# Altium integrated library Maxim Digital Potentiometers.IntLib: 1045 symbols (part 5 of 42)
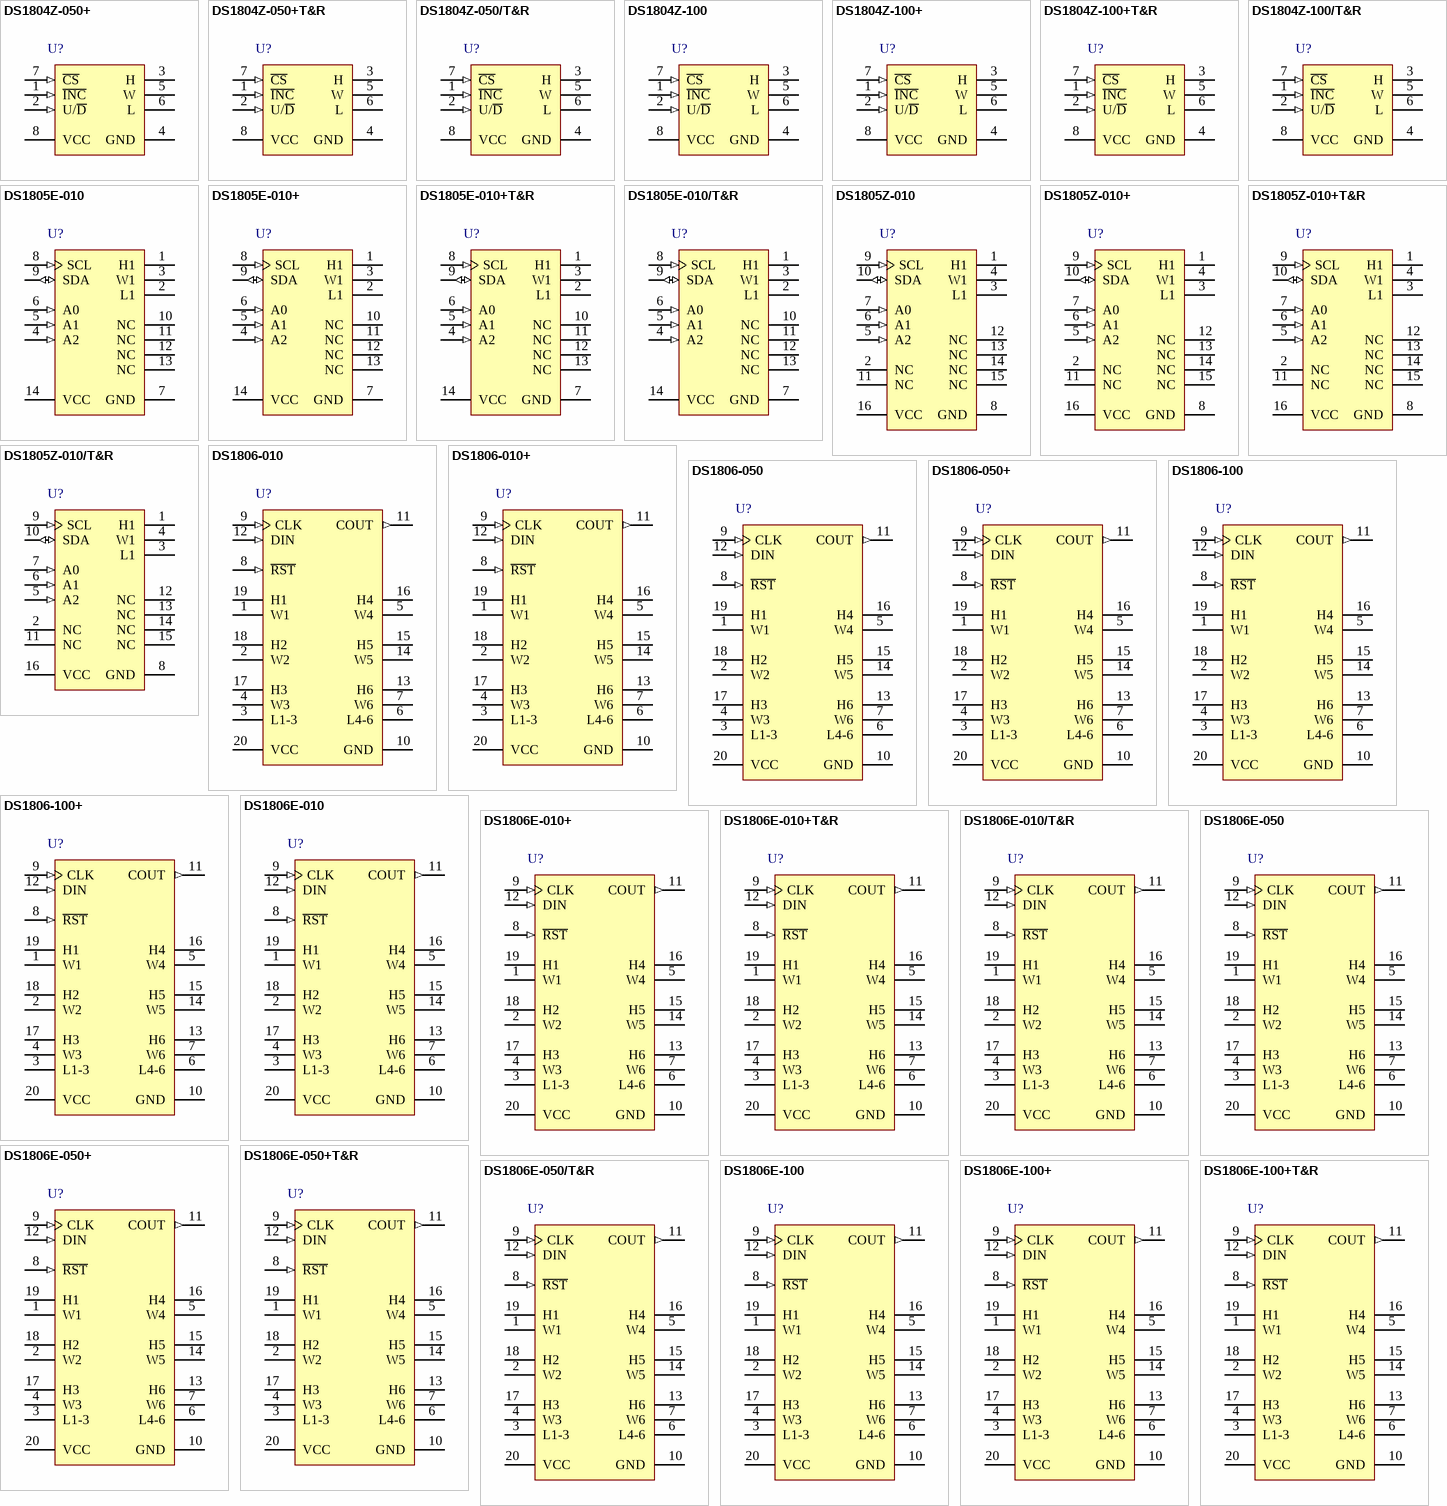
[diagram p33: symbols DS1804Z-050+ to DS1806E-100+T&R]

## DS1806-050
designator U?
Digital Sextet Potentiometer with 3-Wire Serial Control Interface, Volatile, Linear Taper, 64 Steps, -40 to 85 degC, 20-pin PDIP (P20-3); PartNumber: DS1806-050; DatasheetVersion: Rev. 1; PackageVersion: Rev. E, 04/2011; PackageReference: P20-3; PackageDescription: 20-Pin Plastic Dual-In-Line, Narrow (0.3in) (P20-3), Body 26.16 x 6.985 mm, Pitch 2.54 mm; Supplier 1: Digi-Key; Supplier Part Number 1: DS1806-050-ND; Supplier 2: Mouser; Supplier Part Number 2: N/A; Control Interface: 3-Wire Serial; Mounting Technology: Through Hole; Code_JEDEC: MS001-XX; ComponentLink1Description: Manufacturer URL; ComponentLink1URL: http://www.maximintegrated.com/; ComponentLink2Description: Datasheet; ComponentLink2URL: http://datasheets.maximintegrated.com/en/ds/DS1806.pdf; ComponentLink3Description: Package Specification; ComponentLink3URL: http://pdfserv.maximintegrated.com/package_dwgs/21-0043.PDF
footprint MAXM-P20-3 (DIP, 20-Leads, Body 26.16x6.985mm, Pitch 2.54mm)
pins: 1 W1 "Wiper Terminal of Pot", 2 W2 "Wiper Terminal of Pot", 3 L1-3 "Low Terminal Pots 1 through 3", 4 W3 "Wiper Terminal of Pot", 5 W4 "Wiper Terminal of Pot", 6 L4-6 "Low Terminal Pots 4 through 6", 7 W6 "Wiper Terminal of Pot", 8 ~{RST} (in) "Serial Port Reset Input", 9 CLK (in) "Serial Port Clock Input", 10 GND (power) "Ground", 11 COUT (out) "Cascade Data Output", 12 DIN (in) "Serial Port Data Input", 13 H6 "High End terminal of Pot", 14 W5 "Wiper Terminal of Pot", 15 H5 "High End terminal of Pot", 16 H4 "High End terminal of Pot", 17 H3 "High End terminal of Pot", 18 H2 "High End terminal of Pot", 19 H1 "High End terminal of Pot", 20 VCC (power) "3V or 5V Supply"

## DS1806-050+
designator U?
Digital Sextet Potentiometer with 3-Wire Serial Control Interface, Volatile, Linear Taper, 64 Steps, -40 to 85 degC, 20-pin PDIP (P20+3), Pb-Free; PartNumber: DS1806-050+; DatasheetVersion: Rev. 1; PackageVersion: Rev. E, 04/2011; PackageReference: P20+3; PackageDescription: 20-Pin Plastic Dual-In-Line, Narrow (0.3in) (P20+3), Body 26.16 x 6.985 mm, Pitch 2.54 mm; Supplier 1: Digi-Key; Supplier Part Number 1: DS1806-050+-ND; Supplier 2: Mouser; Supplier Part Number 2: 700-DS1806-050; Control Interface: 3-Wire Serial; Mounting Technology: Through Hole; Code_JEDEC: MS001-XX; ComponentLink1Description: Manufacturer URL; ComponentLink1URL: http://www.maximintegrated.com/; ComponentLink2Description: Datasheet; ComponentLink2URL: http://datasheets.maximintegrated.com/en/ds/DS1806.pdf; ComponentLink3Description: Package Specification; ComponentLink3URL: http://pdfserv.maximintegrated.com/package_dwgs/21-0043.PDF
footprint MAXM-P20+3 (DIP, 20-Leads, Body 26.16x6.985mm, Pitch 2.54mm)
pins: 1 W1 "Wiper Terminal of Pot", 2 W2 "Wiper Terminal of Pot", 3 L1-3 "Low Terminal Pots 1 through 3", 4 W3 "Wiper Terminal of Pot", 5 W4 "Wiper Terminal of Pot", 6 L4-6 "Low Terminal Pots 4 through 6", 7 W6 "Wiper Terminal of Pot", 8 ~{RST} (in) "Serial Port Reset Input", 9 CLK (in) "Serial Port Clock Input", 10 GND (power) "Ground", 11 COUT (out) "Cascade Data Output", 12 DIN (in) "Serial Port Data Input", 13 H6 "High End terminal of Pot", 14 W5 "Wiper Terminal of Pot", 15 H5 "High End terminal of Pot", 16 H4 "High End terminal of Pot", 17 H3 "High End terminal of Pot", 18 H2 "High End terminal of Pot", 19 H1 "High End terminal of Pot", 20 VCC (power) "3V or 5V Supply"

## DS1806-100
designator U?
Digital Sextet Potentiometer with 3-Wire Serial Control Interface, Volatile, Linear Taper, 64 Steps, -40 to 85 degC, 20-pin PDIP (P20-3); PartNumber: DS1806-100; DatasheetVersion: Rev. 1; PackageVersion: Rev. E, 04/2011; PackageReference: P20-3; PackageDescription: 20-Pin Plastic Dual-In-Line, Narrow (0.3in) (P20-3), Body 26.16 x 6.985 mm, Pitch 2.54 mm; Supplier 1: Digi-Key; Supplier Part Number 1: DS1806-100-ND; Supplier 2: Farnell; Supplier Part Number 2: 670959; Supplier 3: Mouser; Supplier Part Number 3: N/A; Control Interface: 3-Wire Serial; Mounting Technology: Through Hole; Code_JEDEC: MS001-XX; ComponentLink1Description: Manufacturer URL; ComponentLink1URL: http://www.maximintegrated.com/; ComponentLink2Description: Datasheet; ComponentLink2URL: http://datasheets.maximintegrated.com/en/ds/DS1806.pdf; ComponentLink3Description: Package Specification; ComponentLink3URL: http://pdfserv.maximintegrated.com/package_dwgs/21-0043.PDF
footprint MAXM-P20-3 (DIP, 20-Leads, Body 26.16x6.985mm, Pitch 2.54mm)
pins: 1 W1 "Wiper Terminal of Pot", 2 W2 "Wiper Terminal of Pot", 3 L1-3 "Low Terminal Pots 1 through 3", 4 W3 "Wiper Terminal of Pot", 5 W4 "Wiper Terminal of Pot", 6 L4-6 "Low Terminal Pots 4 through 6", 7 W6 "Wiper Terminal of Pot", 8 ~{RST} (in) "Serial Port Reset Input", 9 CLK (in) "Serial Port Clock Input", 10 GND (power) "Ground", 11 COUT (out) "Cascade Data Output", 12 DIN (in) "Serial Port Data Input", 13 H6 "High End terminal of Pot", 14 W5 "Wiper Terminal of Pot", 15 H5 "High End terminal of Pot", 16 H4 "High End terminal of Pot", 17 H3 "High End terminal of Pot", 18 H2 "High End terminal of Pot", 19 H1 "High End terminal of Pot", 20 VCC (power) "3V or 5V Supply"

## DS1806-100+
designator U?
Digital Sextet Potentiometer with 3-Wire Serial Control Interface, Volatile, Linear Taper, 64 Steps, -40 to 85 degC, 20-pin PDIP (P20+3), Pb-Free; PartNumber: DS1806-100+; DatasheetVersion: Rev. 1; PackageVersion: Rev. E, 04/2011; PackageReference: P20+3; PackageDescription: 20-Pin Plastic Dual-In-Line, Narrow (0.3in) (P20+3), Body 26.16 x 6.985 mm, Pitch 2.54 mm; Supplier 1: Digi-Key; Supplier Part Number 1: DS1806-100+-ND; Supplier 2: Mouser; Supplier Part Number 2: 700-DS1806-100; Control Interface: 3-Wire Serial; Mounting Technology: Through Hole; Code_JEDEC: MS001-XX; ComponentLink1Description: Manufacturer URL; ComponentLink1URL: http://www.maximintegrated.com/; ComponentLink2Description: Datasheet; ComponentLink2URL: http://datasheets.maximintegrated.com/en/ds/DS1806.pdf; ComponentLink3Description: Package Specification; ComponentLink3URL: http://pdfserv.maximintegrated.com/package_dwgs/21-0043.PDF
footprint MAXM-P20+3 (DIP, 20-Leads, Body 26.16x6.985mm, Pitch 2.54mm)
pins: 1 W1 "Wiper Terminal of Pot", 2 W2 "Wiper Terminal of Pot", 3 L1-3 "Low Terminal Pots 1 through 3", 4 W3 "Wiper Terminal of Pot", 5 W4 "Wiper Terminal of Pot", 6 L4-6 "Low Terminal Pots 4 through 6", 7 W6 "Wiper Terminal of Pot", 8 ~{RST} (in) "Serial Port Reset Input", 9 CLK (in) "Serial Port Clock Input", 10 GND (power) "Ground", 11 COUT (out) "Cascade Data Output", 12 DIN (in) "Serial Port Data Input", 13 H6 "High End terminal of Pot", 14 W5 "Wiper Terminal of Pot", 15 H5 "High End terminal of Pot", 16 H4 "High End terminal of Pot", 17 H3 "High End terminal of Pot", 18 H2 "High End terminal of Pot", 19 H1 "High End terminal of Pot", 20 VCC (power) "3V or 5V Supply"

## DS1806E-010
designator U?
Digital Sextet Potentiometer with 3-Wire Serial Control Interface, Volatile, Linear Taper, 64 Steps, -40 to 85 degC, 20-pin TSSOP (U20-1); PartNumber: DS1806E-010; DatasheetVersion: Rev. 1; PackageVersion: Rev. L, 07/2010; PackageReference: U20-1; PackageDescription: 20-Pin Thin Shrink Small-Outline Package (U20-1), Body 6.5 x 4.4 mm, Pitch 0.65 mm; Supplier 1: Digi-Key; Supplier Part Number 1: DS1806E-010-ND; Supplier 2: Mouser; Supplier Part Number 2: N/A; Control Interface: 3-Wire Serial; Mounting Technology: Surface Mount; Code_JEDEC: MO-153; ComponentLink1Description: Manufacturer URL; ComponentLink1URL: http://www.maximintegrated.com/; ComponentLink2Description: Datasheet; ComponentLink2URL: http://datasheets.maximintegrated.com/en/ds/DS1806.pdf; ComponentLink3Description: Package Specification; ComponentLink3URL: http://pdfserv.maximintegrated.com/package_dwgs/21-0066.PDF
footprint MAXM-U20-1_N (SOP, 20-Leads, Body 6.5x4.40mm, Pitch 0.65mm, IPC Medium Density)
footprint MAXM-U20-1_L (SOP, 20-Leads, Body 6.5x4.40mm, Pitch 0.65mm, IPC High Density)
footprint MAXM-U20-1_M (SOP, 20-Leads, Body 6.5x4.40mm, Pitch 0.65mm, IPC Low Density)
pins: 1 W1 "Wiper Terminal of Pot", 2 W2 "Wiper Terminal of Pot", 3 L1-3 "Low Terminal Pots 1 through 3", 4 W3 "Wiper Terminal of Pot", 5 W4 "Wiper Terminal of Pot", 6 L4-6 "Low Terminal Pots 4 through 6", 7 W6 "Wiper Terminal of Pot", 8 ~{RST} (in) "Serial Port Reset Input", 9 CLK (in) "Serial Port Clock Input", 10 GND (power) "Ground", 11 COUT (out) "Cascade Data Output", 12 DIN (in) "Serial Port Data Input", 13 H6 "High End terminal of Pot", 14 W5 "Wiper Terminal of Pot", 15 H5 "High End terminal of Pot", 16 H4 "High End terminal of Pot", 17 H3 "High End terminal of Pot", 18 H2 "High End terminal of Pot", 19 H1 "High End terminal of Pot", 20 VCC (power) "3V or 5V Supply"

## DS1806E-010+
designator U?
Digital Sextet Potentiometer with 3-Wire Serial Control Interface, Volatile, Linear Taper, 64 Steps, -40 to 85 degC, 20-pin TSSOP (U20+1), Pb-Free; PartNumber: DS1806E-010+; DatasheetVersion: Rev. 1; PackageVersion: Rev. L, 07/2010; PackageReference: U20+1; PackageDescription: 20-Pin Thin Shrink Small-Outline Package (U20+1), Body 6.5 x4.4 mm, Pitch 0.65 mm; Supplier 1: Digi-Key; Supplier Part Number 1: DS1806E-010+-ND; Supplier 2: Mouser; Supplier Part Number 2: 700-DS1806E-010; Control Interface: 3-Wire Serial; Mounting Technology: Surface Mount; Code_JEDEC: MO-153; ComponentLink1Description: Manufacturer URL; ComponentLink1URL: http://www.maximintegrated.com/; ComponentLink2Description: Datasheet; ComponentLink2URL: http://datasheets.maximintegrated.com/en/ds/DS1806.pdf; ComponentLink3Description: Package Specification; ComponentLink3URL: http://pdfserv.maximintegrated.com/package_dwgs/21-0066.PDF
footprint MAXM-U20+1_N (SOP, 20-Leads, Body 6.5x4.4mm, Pitch 0.65mm, IPC Medium Density)
footprint MAXM-U20+1_L (SOP, 20-Leads, Body 6.5x4.4mm, Pitch 0.65mm, IPC High Density)
footprint MAXM-U20+1_M (SOP, 20-Leads, Body 6.5x4.4mm, Pitch 0.65mm, IPC Low Density)
pins: 1 W1 "Wiper Terminal of Pot", 2 W2 "Wiper Terminal of Pot", 3 L1-3 "Low Terminal Pots 1 through 3", 4 W3 "Wiper Terminal of Pot", 5 W4 "Wiper Terminal of Pot", 6 L4-6 "Low Terminal Pots 4 through 6", 7 W6 "Wiper Terminal of Pot", 8 ~{RST} (in) "Serial Port Reset Input", 9 CLK (in) "Serial Port Clock Input", 10 GND (power) "Ground", 11 COUT (out) "Cascade Data Output", 12 DIN (in) "Serial Port Data Input", 13 H6 "High End terminal of Pot", 14 W5 "Wiper Terminal of Pot", 15 H5 "High End terminal of Pot", 16 H4 "High End terminal of Pot", 17 H3 "High End terminal of Pot", 18 H2 "High End terminal of Pot", 19 H1 "High End terminal of Pot", 20 VCC (power) "3V or 5V Supply"

## DS1806E-010+T&R
designator U?
Digital Sextet Potentiometer with 3-Wire Serial Control Interface, Volatile, Linear Taper, 64 Steps, -40 to 85 degC, 20-pin TSSOP (U20+1), Pb-Free, Tape and Reel; PartNumber: DS1806E-010+T&R; DatasheetVersion: Rev. 1; PackageVersion: Rev. L, 07/2010; PackageReference: U20+1; PackageDescription: 20-Pin Thin Shrink Small-Outline Package (U20+1), Body 6.5 x4.4 mm, Pitch 0.65 mm; Supplier 1: Digi-Key; Supplier Part Number 1: DS1806E-010+T&R-ND; Supplier 2: Mouser; Supplier Part Number 2: 700-DS1806E-010T&R; Control Interface: 3-Wire Serial; Mounting Technology: Surface Mount; Code_JEDEC: MO-153; ComponentLink1Description: Manufacturer URL; ComponentLink1URL: http://www.maximintegrated.com/; ComponentLink2Description: Datasheet; ComponentLink2URL: http://datasheets.maximintegrated.com/en/ds/DS1806.pdf; ComponentLink3Description: Package Specification; ComponentLink3URL: http://pdfserv.maximintegrated.com/package_dwgs/21-0066.PDF
footprint MAXM-U20+1_N (SOP, 20-Leads, Body 6.5x4.4mm, Pitch 0.65mm, IPC Medium Density)
footprint MAXM-U20+1_L (SOP, 20-Leads, Body 6.5x4.4mm, Pitch 0.65mm, IPC High Density)
footprint MAXM-U20+1_M (SOP, 20-Leads, Body 6.5x4.4mm, Pitch 0.65mm, IPC Low Density)
pins: 1 W1 "Wiper Terminal of Pot", 2 W2 "Wiper Terminal of Pot", 3 L1-3 "Low Terminal Pots 1 through 3", 4 W3 "Wiper Terminal of Pot", 5 W4 "Wiper Terminal of Pot", 6 L4-6 "Low Terminal Pots 4 through 6", 7 W6 "Wiper Terminal of Pot", 8 ~{RST} (in) "Serial Port Reset Input", 9 CLK (in) "Serial Port Clock Input", 10 GND (power) "Ground", 11 COUT (out) "Cascade Data Output", 12 DIN (in) "Serial Port Data Input", 13 H6 "High End terminal of Pot", 14 W5 "Wiper Terminal of Pot", 15 H5 "High End terminal of Pot", 16 H4 "High End terminal of Pot", 17 H3 "High End terminal of Pot", 18 H2 "High End terminal of Pot", 19 H1 "High End terminal of Pot", 20 VCC (power) "3V or 5V Supply"

## DS1806E-010/T&R
designator U?
Digital Sextet Potentiometer with 3-Wire Serial Control Interface, Volatile, Linear Taper, 64 Steps, -40 to 85 degC, 20-pin TSSOP (U20-1), Tape and Reel; PartNumber: DS1806E-010/T&R; DatasheetVersion: Rev. 1; PackageVersion: Rev. L, 07/2010; PackageReference: U20-1; PackageDescription: 20-Pin Thin Shrink Small-Outline Package (U20-1), Body 6.5 x 4.4 mm, Pitch 0.65 mm; Supplier 1: Mouser; Supplier Part Number 1: N/A; Control Interface: 3-Wire Serial; Mounting Technology: Surface Mount; Code_JEDEC: MO-153; ComponentLink1Description: Manufacturer URL; ComponentLink1URL: http://www.maximintegrated.com/; ComponentLink2Description: Datasheet; ComponentLink2URL: http://datasheets.maximintegrated.com/en/ds/DS1806.pdf; ComponentLink3Description: Package Specification; ComponentLink3URL: http://pdfserv.maximintegrated.com/package_dwgs/21-0066.PDF
footprint MAXM-U20-1_N (SOP, 20-Leads, Body 6.5x4.40mm, Pitch 0.65mm, IPC Medium Density)
footprint MAXM-U20-1_L (SOP, 20-Leads, Body 6.5x4.40mm, Pitch 0.65mm, IPC High Density)
footprint MAXM-U20-1_M (SOP, 20-Leads, Body 6.5x4.40mm, Pitch 0.65mm, IPC Low Density)
pins: 1 W1 "Wiper Terminal of Pot", 2 W2 "Wiper Terminal of Pot", 3 L1-3 "Low Terminal Pots 1 through 3", 4 W3 "Wiper Terminal of Pot", 5 W4 "Wiper Terminal of Pot", 6 L4-6 "Low Terminal Pots 4 through 6", 7 W6 "Wiper Terminal of Pot", 8 ~{RST} (in) "Serial Port Reset Input", 9 CLK (in) "Serial Port Clock Input", 10 GND (power) "Ground", 11 COUT (out) "Cascade Data Output", 12 DIN (in) "Serial Port Data Input", 13 H6 "High End terminal of Pot", 14 W5 "Wiper Terminal of Pot", 15 H5 "High End terminal of Pot", 16 H4 "High End terminal of Pot", 17 H3 "High End terminal of Pot", 18 H2 "High End terminal of Pot", 19 H1 "High End terminal of Pot", 20 VCC (power) "3V or 5V Supply"

## DS1806E-050
designator U?
Digital Sextet Potentiometer with 3-Wire Serial Control Interface, Volatile, Linear Taper, 64 Steps, -40 to 85 degC, 20-pin TSSOP (U20-1); PartNumber: DS1806E-050; DatasheetVersion: Rev. 1; PackageVersion: Rev. L, 07/2010; PackageReference: U20-1; PackageDescription: 20-Pin Thin Shrink Small-Outline Package (U20-1), Body 6.5 x 4.4 mm, Pitch 0.65 mm; Supplier 1: Digi-Key; Supplier Part Number 1: DS1806E-050-ND; Supplier 2: Mouser; Supplier Part Number 2: N/A; Control Interface: 3-Wire Serial; Mounting Technology: Surface Mount; Code_JEDEC: MO-153; ComponentLink1Description: Manufacturer URL; ComponentLink1URL: http://www.maximintegrated.com/; ComponentLink2Description: Datasheet; ComponentLink2URL: http://datasheets.maximintegrated.com/en/ds/DS1806.pdf; ComponentLink3Description: Package Specification; ComponentLink3URL: http://pdfserv.maximintegrated.com/package_dwgs/21-0066.PDF
footprint MAXM-U20-1_N (SOP, 20-Leads, Body 6.5x4.40mm, Pitch 0.65mm, IPC Medium Density)
footprint MAXM-U20-1_L (SOP, 20-Leads, Body 6.5x4.40mm, Pitch 0.65mm, IPC High Density)
footprint MAXM-U20-1_M (SOP, 20-Leads, Body 6.5x4.40mm, Pitch 0.65mm, IPC Low Density)
pins: 1 W1 "Wiper Terminal of Pot", 2 W2 "Wiper Terminal of Pot", 3 L1-3 "Low Terminal Pots 1 through 3", 4 W3 "Wiper Terminal of Pot", 5 W4 "Wiper Terminal of Pot", 6 L4-6 "Low Terminal Pots 4 through 6", 7 W6 "Wiper Terminal of Pot", 8 ~{RST} (in) "Serial Port Reset Input", 9 CLK (in) "Serial Port Clock Input", 10 GND (power) "Ground", 11 COUT (out) "Cascade Data Output", 12 DIN (in) "Serial Port Data Input", 13 H6 "High End terminal of Pot", 14 W5 "Wiper Terminal of Pot", 15 H5 "High End terminal of Pot", 16 H4 "High End terminal of Pot", 17 H3 "High End terminal of Pot", 18 H2 "High End terminal of Pot", 19 H1 "High End terminal of Pot", 20 VCC (power) "3V or 5V Supply"

## DS1806E-050+
designator U?
Digital Sextet Potentiometer with 3-Wire Serial Control Interface, Volatile, Linear Taper, 64 Steps, -40 to 85 degC, 20-pin TSSOP (U20+1), Pb-Free; PartNumber: DS1806E-050+; DatasheetVersion: Rev. 1; PackageVersion: Rev. L, 07/2010; PackageReference: U20+1; PackageDescription: 20-Pin Thin Shrink Small-Outline Package (U20+1), Body 6.5 x4.4 mm, Pitch 0.65 mm; Supplier 1: Digi-Key; Supplier Part Number 1: DS1806E-050+-ND; Supplier 2: Mouser; Supplier Part Number 2: 700-DS1806E-050; Control Interface: 3-Wire Serial; Mounting Technology: Surface Mount; Code_JEDEC: MO-153; ComponentLink1Description: Manufacturer URL; ComponentLink1URL: http://www.maximintegrated.com/; ComponentLink2Description: Datasheet; ComponentLink2URL: http://datasheets.maximintegrated.com/en/ds/DS1806.pdf; ComponentLink3Description: Package Specification; ComponentLink3URL: http://pdfserv.maximintegrated.com/package_dwgs/21-0066.PDF
footprint MAXM-U20+1_N (SOP, 20-Leads, Body 6.5x4.4mm, Pitch 0.65mm, IPC Medium Density)
footprint MAXM-U20+1_L (SOP, 20-Leads, Body 6.5x4.4mm, Pitch 0.65mm, IPC High Density)
footprint MAXM-U20+1_M (SOP, 20-Leads, Body 6.5x4.4mm, Pitch 0.65mm, IPC Low Density)
pins: 1 W1 "Wiper Terminal of Pot", 2 W2 "Wiper Terminal of Pot", 3 L1-3 "Low Terminal Pots 1 through 3", 4 W3 "Wiper Terminal of Pot", 5 W4 "Wiper Terminal of Pot", 6 L4-6 "Low Terminal Pots 4 through 6", 7 W6 "Wiper Terminal of Pot", 8 ~{RST} (in) "Serial Port Reset Input", 9 CLK (in) "Serial Port Clock Input", 10 GND (power) "Ground", 11 COUT (out) "Cascade Data Output", 12 DIN (in) "Serial Port Data Input", 13 H6 "High End terminal of Pot", 14 W5 "Wiper Terminal of Pot", 15 H5 "High End terminal of Pot", 16 H4 "High End terminal of Pot", 17 H3 "High End terminal of Pot", 18 H2 "High End terminal of Pot", 19 H1 "High End terminal of Pot", 20 VCC (power) "3V or 5V Supply"

## DS1806E-050+T&R
designator U?
Digital Sextet Potentiometer with 3-Wire Serial Control Interface, Volatile, Linear Taper, 64 Steps, -40 to 85 degC, 20-pin TSSOP (U20+1), Pb-Free, Tape and Reel; PartNumber: DS1806E-050+T&R; DatasheetVersion: Rev. 1; PackageVersion: Rev. L, 07/2010; PackageReference: U20+1; PackageDescription: 20-Pin Thin Shrink Small-Outline Package (U20+1), Body 6.5 x4.4 mm, Pitch 0.65 mm; Supplier 1: Digi-Key; Supplier Part Number 1: DS1806E-050+T&R-ND; Supplier 2: Mouser; Supplier Part Number 2: 700-DS1806E-050T&R; Control Interface: 3-Wire Serial; Mounting Technology: Surface Mount; Code_JEDEC: MO-153; ComponentLink1Description: Manufacturer URL; ComponentLink1URL: http://www.maximintegrated.com/; ComponentLink2Description: Datasheet; ComponentLink2URL: http://datasheets.maximintegrated.com/en/ds/DS1806.pdf; ComponentLink3Description: Package Specification; ComponentLink3URL: http://pdfserv.maximintegrated.com/package_dwgs/21-0066.PDF
footprint MAXM-U20+1_N (SOP, 20-Leads, Body 6.5x4.4mm, Pitch 0.65mm, IPC Medium Density)
footprint MAXM-U20+1_L (SOP, 20-Leads, Body 6.5x4.4mm, Pitch 0.65mm, IPC High Density)
footprint MAXM-U20+1_M (SOP, 20-Leads, Body 6.5x4.4mm, Pitch 0.65mm, IPC Low Density)
pins: 1 W1 "Wiper Terminal of Pot", 2 W2 "Wiper Terminal of Pot", 3 L1-3 "Low Terminal Pots 1 through 3", 4 W3 "Wiper Terminal of Pot", 5 W4 "Wiper Terminal of Pot", 6 L4-6 "Low Terminal Pots 4 through 6", 7 W6 "Wiper Terminal of Pot", 8 ~{RST} (in) "Serial Port Reset Input", 9 CLK (in) "Serial Port Clock Input", 10 GND (power) "Ground", 11 COUT (out) "Cascade Data Output", 12 DIN (in) "Serial Port Data Input", 13 H6 "High End terminal of Pot", 14 W5 "Wiper Terminal of Pot", 15 H5 "High End terminal of Pot", 16 H4 "High End terminal of Pot", 17 H3 "High End terminal of Pot", 18 H2 "High End terminal of Pot", 19 H1 "High End terminal of Pot", 20 VCC (power) "3V or 5V Supply"

## DS1806E-050/T&R
designator U?
Digital Sextet Potentiometer with 3-Wire Serial Control Interface, Volatile, Linear Taper, 64 Steps, -40 to 85 degC, 20-pin TSSOP (U20-1), Tape and Reel; PartNumber: DS1806E-050/T&R; DatasheetVersion: Rev. 1; PackageVersion: Rev. L, 07/2010; PackageReference: U20-1; PackageDescription: 20-Pin Thin Shrink Small-Outline Package (U20-1), Body 6.5 x 4.4 mm, Pitch 0.65 mm; Supplier 1: Digi-Key; Supplier Part Number 1: DS1806E-050/T&R-ND; Supplier 2: Mouser; Supplier Part Number 2: N/A; Control Interface: 3-Wire Serial; Mounting Technology: Surface Mount; Code_JEDEC: MO-153; ComponentLink1Description: Manufacturer URL; ComponentLink1URL: http://www.maximintegrated.com/; ComponentLink2Description: Datasheet; ComponentLink2URL: http://datasheets.maximintegrated.com/en/ds/DS1806.pdf; ComponentLink3Description: Package Specification; ComponentLink3URL: http://pdfserv.maximintegrated.com/package_dwgs/21-0066.PDF
footprint MAXM-U20-1_N (SOP, 20-Leads, Body 6.5x4.40mm, Pitch 0.65mm, IPC Medium Density)
footprint MAXM-U20-1_L (SOP, 20-Leads, Body 6.5x4.40mm, Pitch 0.65mm, IPC High Density)
footprint MAXM-U20-1_M (SOP, 20-Leads, Body 6.5x4.40mm, Pitch 0.65mm, IPC Low Density)
pins: 1 W1 "Wiper Terminal of Pot", 2 W2 "Wiper Terminal of Pot", 3 L1-3 "Low Terminal Pots 1 through 3", 4 W3 "Wiper Terminal of Pot", 5 W4 "Wiper Terminal of Pot", 6 L4-6 "Low Terminal Pots 4 through 6", 7 W6 "Wiper Terminal of Pot", 8 ~{RST} (in) "Serial Port Reset Input", 9 CLK (in) "Serial Port Clock Input", 10 GND (power) "Ground", 11 COUT (out) "Cascade Data Output", 12 DIN (in) "Serial Port Data Input", 13 H6 "High End terminal of Pot", 14 W5 "Wiper Terminal of Pot", 15 H5 "High End terminal of Pot", 16 H4 "High End terminal of Pot", 17 H3 "High End terminal of Pot", 18 H2 "High End terminal of Pot", 19 H1 "High End terminal of Pot", 20 VCC (power) "3V or 5V Supply"

## DS1806E-100
designator U?
Digital Sextet Potentiometer with 3-Wire Serial Control Interface, Volatile, Linear Taper, 64 Steps, -40 to 85 degC, 20-pin TSSOP (U20-1); PartNumber: DS1806E-100; DatasheetVersion: Rev. 1; PackageVersion: Rev. L, 07/2010; PackageReference: U20-1; PackageDescription: 20-Pin Thin Shrink Small-Outline Package (U20-1), Body 6.5 x 4.4 mm, Pitch 0.65 mm; Supplier 1: Digi-Key; Supplier Part Number 1: DS1806E-100-ND; Supplier 2: Mouser; Supplier Part Number 2: N/A; Control Interface: 3-Wire Serial; Mounting Technology: Surface Mount; Code_JEDEC: MO-153; ComponentLink1Description: Manufacturer URL; ComponentLink1URL: http://www.maximintegrated.com/; ComponentLink2Description: Datasheet; ComponentLink2URL: http://datasheets.maximintegrated.com/en/ds/DS1806.pdf; ComponentLink3Description: Package Specification; ComponentLink3URL: http://pdfserv.maximintegrated.com/package_dwgs/21-0066.PDF
footprint MAXM-U20-1_N (SOP, 20-Leads, Body 6.5x4.40mm, Pitch 0.65mm, IPC Medium Density)
footprint MAXM-U20-1_L (SOP, 20-Leads, Body 6.5x4.40mm, Pitch 0.65mm, IPC High Density)
footprint MAXM-U20-1_M (SOP, 20-Leads, Body 6.5x4.40mm, Pitch 0.65mm, IPC Low Density)
pins: 1 W1 "Wiper Terminal of Pot", 2 W2 "Wiper Terminal of Pot", 3 L1-3 "Low Terminal Pots 1 through 3", 4 W3 "Wiper Terminal of Pot", 5 W4 "Wiper Terminal of Pot", 6 L4-6 "Low Terminal Pots 4 through 6", 7 W6 "Wiper Terminal of Pot", 8 ~{RST} (in) "Serial Port Reset Input", 9 CLK (in) "Serial Port Clock Input", 10 GND (power) "Ground", 11 COUT (out) "Cascade Data Output", 12 DIN (in) "Serial Port Data Input", 13 H6 "High End terminal of Pot", 14 W5 "Wiper Terminal of Pot", 15 H5 "High End terminal of Pot", 16 H4 "High End terminal of Pot", 17 H3 "High End terminal of Pot", 18 H2 "High End terminal of Pot", 19 H1 "High End terminal of Pot", 20 VCC (power) "3V or 5V Supply"

## DS1806E-100+
designator U?
Digital Sextet Potentiometer with 3-Wire Serial Control Interface, Volatile, Linear Taper, 64 Steps, -40 to 85 degC, 20-pin TSSOP (U20+1), Pb-Free; PartNumber: DS1806E-100+; DatasheetVersion: Rev. 1; PackageVersion: Rev. L, 07/2010; PackageReference: U20+1; PackageDescription: 20-Pin Thin Shrink Small-Outline Package (U20+1), Body 6.5 x4.4 mm, Pitch 0.65 mm; Supplier 1: Digi-Key; Supplier Part Number 1: DS1806E-100+-ND; Supplier 2: Mouser; Supplier Part Number 2: 700-DS1806E-100; Control Interface: 3-Wire Serial; Mounting Technology: Surface Mount; Code_JEDEC: MO-153; ComponentLink1Description: Manufacturer URL; ComponentLink1URL: http://www.maximintegrated.com/; ComponentLink2Description: Datasheet; ComponentLink2URL: http://datasheets.maximintegrated.com/en/ds/DS1806.pdf; ComponentLink3Description: Package Specification; ComponentLink3URL: http://pdfserv.maximintegrated.com/package_dwgs/21-0066.PDF
footprint MAXM-U20+1_N (SOP, 20-Leads, Body 6.5x4.4mm, Pitch 0.65mm, IPC Medium Density)
footprint MAXM-U20+1_L (SOP, 20-Leads, Body 6.5x4.4mm, Pitch 0.65mm, IPC High Density)
footprint MAXM-U20+1_M (SOP, 20-Leads, Body 6.5x4.4mm, Pitch 0.65mm, IPC Low Density)
pins: 1 W1 "Wiper Terminal of Pot", 2 W2 "Wiper Terminal of Pot", 3 L1-3 "Low Terminal Pots 1 through 3", 4 W3 "Wiper Terminal of Pot", 5 W4 "Wiper Terminal of Pot", 6 L4-6 "Low Terminal Pots 4 through 6", 7 W6 "Wiper Terminal of Pot", 8 ~{RST} (in) "Serial Port Reset Input", 9 CLK (in) "Serial Port Clock Input", 10 GND (power) "Ground", 11 COUT (out) "Cascade Data Output", 12 DIN (in) "Serial Port Data Input", 13 H6 "High End terminal of Pot", 14 W5 "Wiper Terminal of Pot", 15 H5 "High End terminal of Pot", 16 H4 "High End terminal of Pot", 17 H3 "High End terminal of Pot", 18 H2 "High End terminal of Pot", 19 H1 "High End terminal of Pot", 20 VCC (power) "3V or 5V Supply"

## DS1806E-100+T&R
designator U?
Digital Sextet Potentiometer with 3-Wire Serial Control Interface, Volatile, Linear Taper, 64 Steps, -40 to 85 degC, 20-pin TSSOP (U20+1), Pb-Free, Tape and Reel; PartNumber: DS1806E-100+T&R; DatasheetVersion: Rev. 1; PackageVersion: Rev. L, 07/2010; PackageReference: U20+1; PackageDescription: 20-Pin Thin Shrink Small-Outline Package (U20+1), Body 6.5 x4.4 mm, Pitch 0.65 mm; Supplier 1: Digi-Key; Supplier Part Number 1: DS1806E-100+T&R-ND; Supplier 2: Mouser; Supplier Part Number 2: 700-DS1806E-100T&R; Control Interface: 3-Wire Serial; Mounting Technology: Surface Mount; Code_JEDEC: MO-153; ComponentLink1Description: Manufacturer URL; ComponentLink1URL: http://www.maximintegrated.com/; ComponentLink2Description: Datasheet; ComponentLink2URL: http://datasheets.maximintegrated.com/en/ds/DS1806.pdf; ComponentLink3Description: Package Specification; ComponentLink3URL: http://pdfserv.maximintegrated.com/package_dwgs/21-0066.PDF
footprint MAXM-U20+1_N (SOP, 20-Leads, Body 6.5x4.4mm, Pitch 0.65mm, IPC Medium Density)
footprint MAXM-U20+1_L (SOP, 20-Leads, Body 6.5x4.4mm, Pitch 0.65mm, IPC High Density)
footprint MAXM-U20+1_M (SOP, 20-Leads, Body 6.5x4.4mm, Pitch 0.65mm, IPC Low Density)
pins: 1 W1 "Wiper Terminal of Pot", 2 W2 "Wiper Terminal of Pot", 3 L1-3 "Low Terminal Pots 1 through 3", 4 W3 "Wiper Terminal of Pot", 5 W4 "Wiper Terminal of Pot", 6 L4-6 "Low Terminal Pots 4 through 6", 7 W6 "Wiper Terminal of Pot", 8 ~{RST} (in) "Serial Port Reset Input", 9 CLK (in) "Serial Port Clock Input", 10 GND (power) "Ground", 11 COUT (out) "Cascade Data Output", 12 DIN (in) "Serial Port Data Input", 13 H6 "High End terminal of Pot", 14 W5 "Wiper Terminal of Pot", 15 H5 "High End terminal of Pot", 16 H4 "High End terminal of Pot", 17 H3 "High End terminal of Pot", 18 H2 "High End terminal of Pot", 19 H1 "High End terminal of Pot", 20 VCC (power) "3V or 5V Supply"

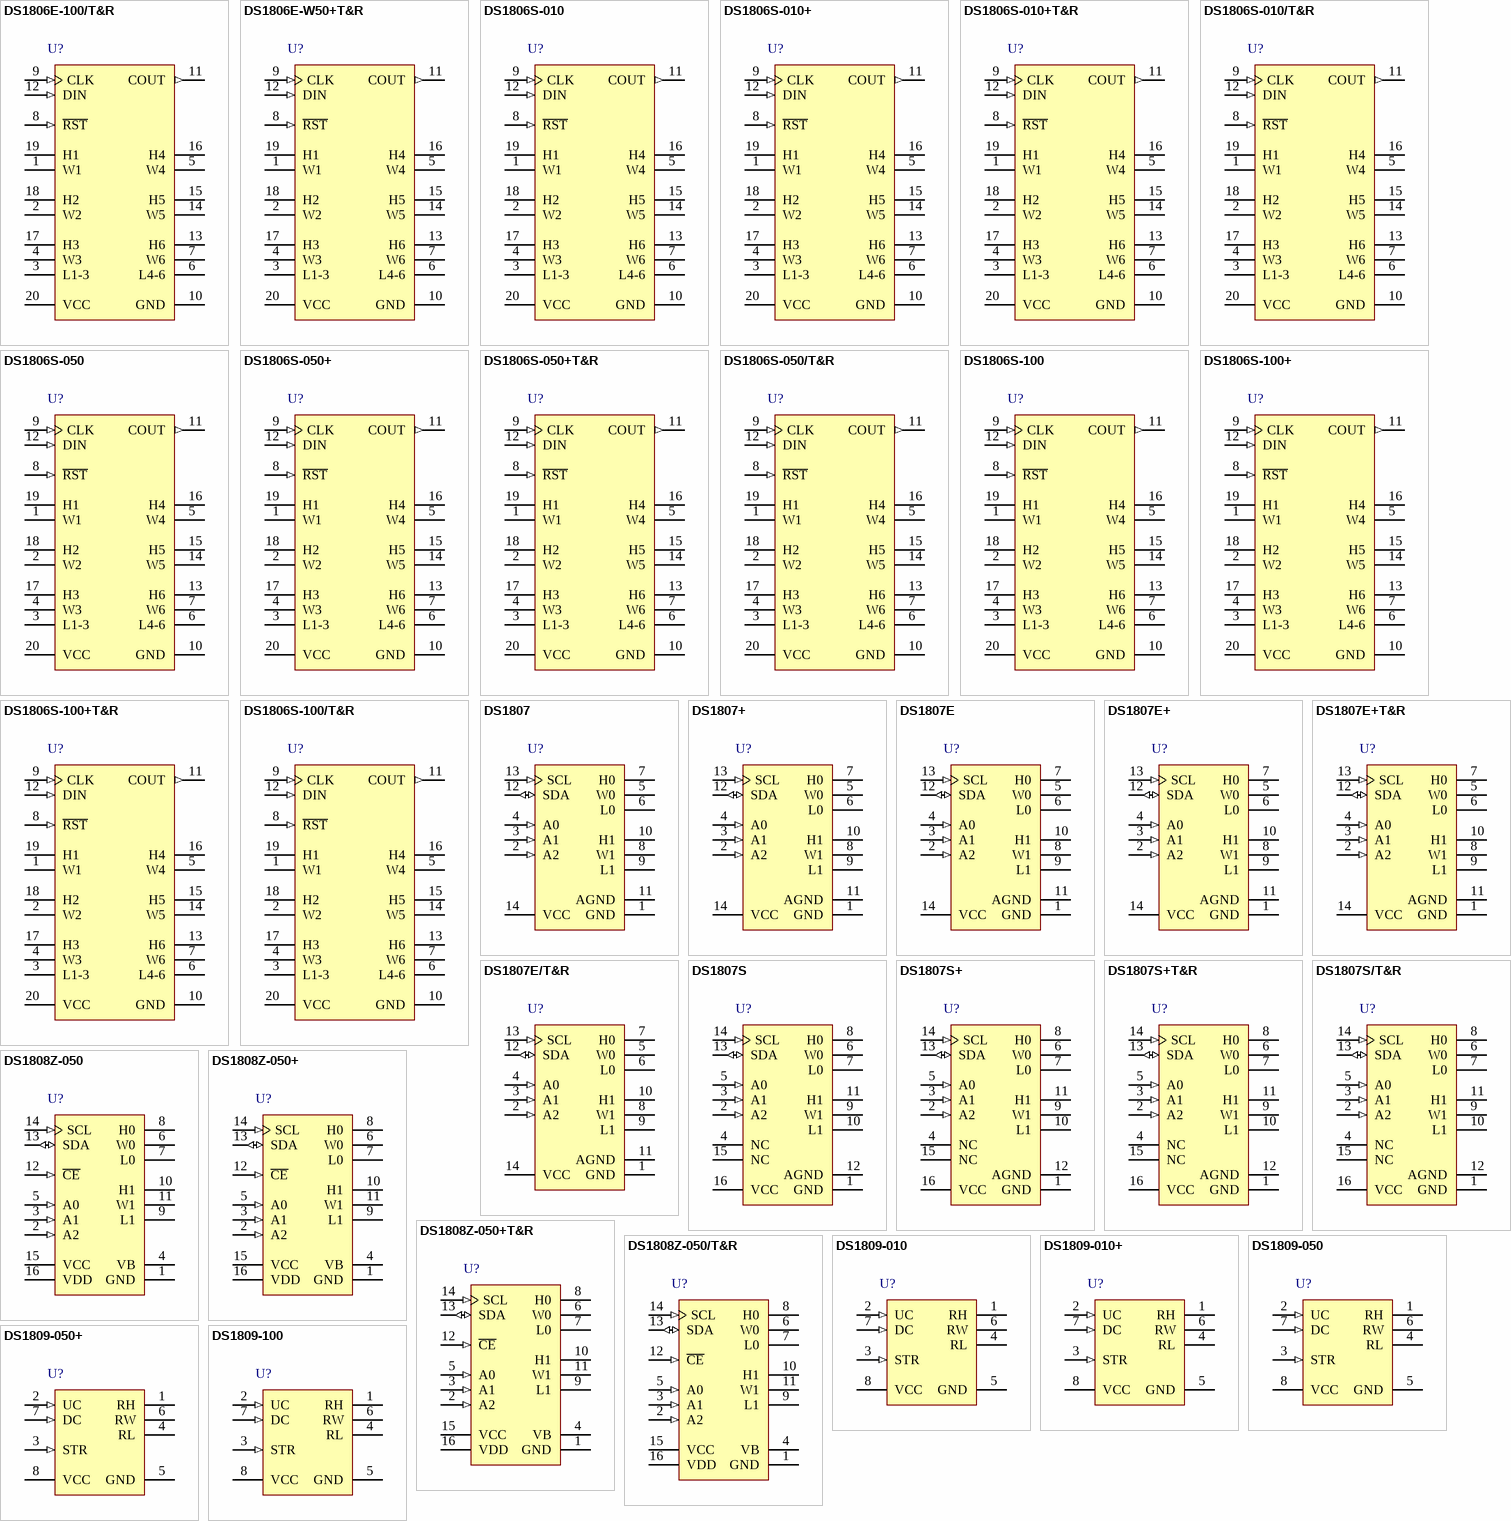
[diagram p4: symbols DS1806E-100/T&R to DS1809-100]

## DS1806E-100/T&R
designator U?
Digital Sextet Potentiometer with 3-Wire Serial Control Interface, Volatile, Linear Taper, 64 Steps, -40 to 85 degC, 20-pin TSSOP (U20-1), Tape and Reel; PartNumber: DS1806E-100/T&R; DatasheetVersion: Rev. 1; PackageVersion: Rev. L, 07/2010; PackageReference: U20-1; PackageDescription: 20-Pin Thin Shrink Small-Outline Package (U20-1), Body 6.5 x 4.4 mm, Pitch 0.65 mm; Supplier 1: Digi-Key; Supplier Part Number 1: DS1806E-100/T&R-ND; Supplier 2: Mouser; Supplier Part Number 2: N/A; Control Interface: 3-Wire Serial; Mounting Technology: Surface Mount; Code_JEDEC: MO-153; ComponentLink1Description: Manufacturer URL; ComponentLink1URL: http://www.maximintegrated.com/; ComponentLink2Description: Datasheet; ComponentLink2URL: http://datasheets.maximintegrated.com/en/ds/DS1806.pdf; ComponentLink3Description: Package Specification; ComponentLink3URL: http://pdfserv.maximintegrated.com/package_dwgs/21-0066.PDF
footprint MAXM-U20-1_N (SOP, 20-Leads, Body 6.5x4.40mm, Pitch 0.65mm, IPC Medium Density)
footprint MAXM-U20-1_L (SOP, 20-Leads, Body 6.5x4.40mm, Pitch 0.65mm, IPC High Density)
footprint MAXM-U20-1_M (SOP, 20-Leads, Body 6.5x4.40mm, Pitch 0.65mm, IPC Low Density)
pins: 1 W1 "Wiper Terminal of Pot", 2 W2 "Wiper Terminal of Pot", 3 L1-3 "Low Terminal Pots 1 through 3", 4 W3 "Wiper Terminal of Pot", 5 W4 "Wiper Terminal of Pot", 6 L4-6 "Low Terminal Pots 4 through 6", 7 W6 "Wiper Terminal of Pot", 8 ~{RST} (in) "Serial Port Reset Input", 9 CLK (in) "Serial Port Clock Input", 10 GND (power) "Ground", 11 COUT (out) "Cascade Data Output", 12 DIN (in) "Serial Port Data Input", 13 H6 "High End terminal of Pot", 14 W5 "Wiper Terminal of Pot", 15 H5 "High End terminal of Pot", 16 H4 "High End terminal of Pot", 17 H3 "High End terminal of Pot", 18 H2 "High End terminal of Pot", 19 H1 "High End terminal of Pot", 20 VCC (power) "3V or 5V Supply"

## DS1806E-W50+T&R
designator U?
Digital Sextet Potentiometer with 3-Wire Serial Control Interface, Volatile, Linear Taper, 64 Steps, -40 to 85 degC, 20-pin TSSOP (U20+1), Pb-Free, Tape and Reel; PartNumber: DS1806E-W50+T&R; DatasheetVersion: Rev. 1; PackageVersion: Rev. L, 07/2010; PackageReference: U20+1; PackageDescription: 20-Pin Thin Shrink Small-Outline Package (U20+1), Body 6.5 x4.4 mm, Pitch 0.65 mm; Supplier 1: Digi-Key; Supplier Part Number 1: DS1806E-W50+T&R-ND; Supplier 2: Mouser; Supplier Part Number 2: 700-DS1806E-W50+T&R; Control Interface: 3-Wire Serial; Mounting Technology: Surface Mount; Code_JEDEC: MO-153; ComponentLink1Description: Manufacturer URL; ComponentLink1URL: http://www.maximintegrated.com/; ComponentLink2Description: Datasheet; ComponentLink2URL: http://datasheets.maximintegrated.com/en/ds/DS1806.pdf; ComponentLink3Description: Package Specification; ComponentLink3URL: http://pdfserv.maximintegrated.com/package_dwgs/21-0066.PDF
footprint MAXM-U20+1_N (SOP, 20-Leads, Body 6.5x4.4mm, Pitch 0.65mm, IPC Medium Density)
footprint MAXM-U20+1_L (SOP, 20-Leads, Body 6.5x4.4mm, Pitch 0.65mm, IPC High Density)
footprint MAXM-U20+1_M (SOP, 20-Leads, Body 6.5x4.4mm, Pitch 0.65mm, IPC Low Density)
pins: 1 W1 "Wiper Terminal of Pot", 2 W2 "Wiper Terminal of Pot", 3 L1-3 "Low Terminal Pots 1 through 3", 4 W3 "Wiper Terminal of Pot", 5 W4 "Wiper Terminal of Pot", 6 L4-6 "Low Terminal Pots 4 through 6", 7 W6 "Wiper Terminal of Pot", 8 ~{RST} (in) "Serial Port Reset Input", 9 CLK (in) "Serial Port Clock Input", 10 GND (power) "Ground", 11 COUT (out) "Cascade Data Output", 12 DIN (in) "Serial Port Data Input", 13 H6 "High End terminal of Pot", 14 W5 "Wiper Terminal of Pot", 15 H5 "High End terminal of Pot", 16 H4 "High End terminal of Pot", 17 H3 "High End terminal of Pot", 18 H2 "High End terminal of Pot", 19 H1 "High End terminal of Pot", 20 VCC (power) "3V or 5V Supply"

## DS1806S-010
designator U?
Digital Sextet Potentiometer with 3-Wire Serial Control Interface, Volatile, Linear Taper, 64 Steps, -40 to 85 degC, 20-pin SOIC (W20-3); PartNumber: DS1806S-010; DatasheetVersion: Rev. 1; PackageVersion: Rev. F, 10/2012; PackageReference: W20-3; PackageDescription: 20-Pin Small-Outline IC, Wide (0.3in), Body 12.8 x 7.5 mm, Pitch 1.27 mm; Supplier 1: Digi-Key; Supplier Part Number 1: DS1806S-010-ND; Supplier 2: Mouser; Supplier Part Number 2: N/A; Control Interface: 3-Wire Serial; Mounting Technology: Surface Mount; Code_JEDEC: MS013; ComponentLink1Description: Manufacturer URL; ComponentLink1URL: http://www.maximintegrated.com/; ComponentLink2Description: Datasheet; ComponentLink2URL: http://datasheets.maximintegrated.com/en/ds/DS1806.pdf; ComponentLink3Description: Package Specification; ComponentLink3URL: http://pdfserv.maximintegrated.com/package_dwgs/21-0042.PDF
footprint MAXM-W20-3_N (SOIC, 20-Leads, Body 12.8x7.5mm, Pitch 1.27mm, IPC Medium Density)
footprint MAXM-W20-3_L (SOIC, 20-Leads, Body 12.8x7.5mm, Pitch 1.27mm, IPC High Density)
footprint MAXM-W20-3_M (SOIC, 20-Leads, Body 12.8x7.5mm, Pitch 1.27mm, IPC Low Density)
pins: 1 W1 "Wiper Terminal of Pot", 2 W2 "Wiper Terminal of Pot", 3 L1-3 "Low Terminal Pots 1 through 3", 4 W3 "Wiper Terminal of Pot", 5 W4 "Wiper Terminal of Pot", 6 L4-6 "Low Terminal Pots 4 through 6", 7 W6 "Wiper Terminal of Pot", 8 ~{RST} (in) "Serial Port Reset Input", 9 CLK (in) "Serial Port Clock Input", 10 GND (power) "Ground", 11 COUT (out) "Cascade Data Output", 12 DIN (in) "Serial Port Data Input", 13 H6 "High End terminal of Pot", 14 W5 "Wiper Terminal of Pot", 15 H5 "High End terminal of Pot", 16 H4 "High End terminal of Pot", 17 H3 "High End terminal of Pot", 18 H2 "High End terminal of Pot", 19 H1 "High End terminal of Pot", 20 VCC (power) "3V or 5V Supply"

## DS1806S-010+
designator U?
Digital Sextet Potentiometer with 3-Wire Serial Control Interface, Volatile, Linear Taper, 64 Steps, -40 to 85 degC, 20-pin SOIC (W20+3), Pb-Free; PartNumber: DS1806S-010+; DatasheetVersion: Rev. 1; PackageVersion: Rev. F, 10/2012; PackageReference: W20+3; PackageDescription: 20-Pin Small-Outline IC, Wide (0.3in), Body 12.8 x 7.5 mm, Pitch 1.27 mm; Supplier 1: Digi-Key; Supplier Part Number 1: DS1806S-010+-ND; Supplier 2: Mouser; Supplier Part Number 2: 700-DS1806S-010; Control Interface: 3-Wire Serial; Mounting Technology: Surface Mount; Code_JEDEC: MS013; ComponentLink1Description: Manufacturer URL; ComponentLink1URL: http://www.maximintegrated.com/; ComponentLink2Description: Datasheet; ComponentLink2URL: http://datasheets.maximintegrated.com/en/ds/DS1806.pdf; ComponentLink3Description: Package Specification; ComponentLink3URL: http://pdfserv.maximintegrated.com/package_dwgs/21-0042.PDF
footprint MAXM-W20+3_N (SOIC, 20-Leads, Body 12.8x7.5mm, Pitch 1.27mm, IPC Medium Density)
footprint MAXM-W20+3_L (SOIC, 20-Leads, Body 12.8x7.5mm, Pitch 1.27mm, IPC High Density)
footprint MAXM-W20+3_M (SOIC, 20-Leads, Body 12.8x7.5mm, Pitch 1.27mm, IPC Low Density)
pins: 1 W1 "Wiper Terminal of Pot", 2 W2 "Wiper Terminal of Pot", 3 L1-3 "Low Terminal Pots 1 through 3", 4 W3 "Wiper Terminal of Pot", 5 W4 "Wiper Terminal of Pot", 6 L4-6 "Low Terminal Pots 4 through 6", 7 W6 "Wiper Terminal of Pot", 8 ~{RST} (in) "Serial Port Reset Input", 9 CLK (in) "Serial Port Clock Input", 10 GND (power) "Ground", 11 COUT (out) "Cascade Data Output", 12 DIN (in) "Serial Port Data Input", 13 H6 "High End terminal of Pot", 14 W5 "Wiper Terminal of Pot", 15 H5 "High End terminal of Pot", 16 H4 "High End terminal of Pot", 17 H3 "High End terminal of Pot", 18 H2 "High End terminal of Pot", 19 H1 "High End terminal of Pot", 20 VCC (power) "3V or 5V Supply"

## DS1806S-010+T&R
designator U?
Digital Sextet Potentiometer with 3-Wire Serial Control Interface, Volatile, Linear Taper, 64 Steps, -40 to 85 degC, 20-pin SOIC (W20+3), Pb-Free, Tape and Reel; PartNumber: DS1806S-010+T&R; DatasheetVersion: Rev. 1; PackageVersion: Rev. F, 10/2012; PackageReference: W20+3; PackageDescription: 20-Pin Small-Outline IC, Wide (0.3in), Body 12.8 x 7.5 mm, Pitch 1.27 mm; Supplier 1: Digi-Key; Supplier Part Number 1: DS1806S-010+T&R-ND; Supplier 2: Mouser; Supplier Part Number 2: 700-DS1806S-010T&R; Control Interface: 3-Wire Serial; Mounting Technology: Surface Mount; Code_JEDEC: MS013; ComponentLink1Description: Manufacturer URL; ComponentLink1URL: http://www.maximintegrated.com/; ComponentLink2Description: Datasheet; ComponentLink2URL: http://datasheets.maximintegrated.com/en/ds/DS1806.pdf; ComponentLink3Description: Package Specification; ComponentLink3URL: http://pdfserv.maximintegrated.com/package_dwgs/21-0042.PDF
footprint MAXM-W20+3_N (SOIC, 20-Leads, Body 12.8x7.5mm, Pitch 1.27mm, IPC Medium Density)
footprint MAXM-W20+3_L (SOIC, 20-Leads, Body 12.8x7.5mm, Pitch 1.27mm, IPC High Density)
footprint MAXM-W20+3_M (SOIC, 20-Leads, Body 12.8x7.5mm, Pitch 1.27mm, IPC Low Density)
pins: 1 W1 "Wiper Terminal of Pot", 2 W2 "Wiper Terminal of Pot", 3 L1-3 "Low Terminal Pots 1 through 3", 4 W3 "Wiper Terminal of Pot", 5 W4 "Wiper Terminal of Pot", 6 L4-6 "Low Terminal Pots 4 through 6", 7 W6 "Wiper Terminal of Pot", 8 ~{RST} (in) "Serial Port Reset Input", 9 CLK (in) "Serial Port Clock Input", 10 GND (power) "Ground", 11 COUT (out) "Cascade Data Output", 12 DIN (in) "Serial Port Data Input", 13 H6 "High End terminal of Pot", 14 W5 "Wiper Terminal of Pot", 15 H5 "High End terminal of Pot", 16 H4 "High End terminal of Pot", 17 H3 "High End terminal of Pot", 18 H2 "High End terminal of Pot", 19 H1 "High End terminal of Pot", 20 VCC (power) "3V or 5V Supply"

## DS1806S-010/T&R
designator U?
Digital Sextet Potentiometer with 3-Wire Serial Control Interface, Volatile, Linear Taper, 64 Steps, -40 to 85 degC, 20-pin SOIC (W20-3), Tape and Reel; PartNumber: DS1806S-010/T&R; DatasheetVersion: Rev. 1; PackageVersion: Rev. F, 10/2012; PackageReference: W20-3; PackageDescription: 20-Pin Small-Outline IC, Wide (0.3in), Body 12.8 x 7.5 mm, Pitch 1.27 mm; Supplier 1: Digi-Key; Supplier Part Number 1: DS1806S-010/T&R-ND; Supplier 2: Mouser; Supplier Part Number 2: N/A; Control Interface: 3-Wire Serial; Mounting Technology: Surface Mount; Code_JEDEC: MS013; ComponentLink1Description: Manufacturer URL; ComponentLink1URL: http://www.maximintegrated.com/; ComponentLink2Description: Datasheet; ComponentLink2URL: http://datasheets.maximintegrated.com/en/ds/DS1806.pdf; ComponentLink3Description: Package Specification; ComponentLink3URL: http://pdfserv.maximintegrated.com/package_dwgs/21-0042.PDF
footprint MAXM-W20-3_N (SOIC, 20-Leads, Body 12.8x7.5mm, Pitch 1.27mm, IPC Medium Density)
footprint MAXM-W20-3_L (SOIC, 20-Leads, Body 12.8x7.5mm, Pitch 1.27mm, IPC High Density)
footprint MAXM-W20-3_M (SOIC, 20-Leads, Body 12.8x7.5mm, Pitch 1.27mm, IPC Low Density)
pins: 1 W1 "Wiper Terminal of Pot", 2 W2 "Wiper Terminal of Pot", 3 L1-3 "Low Terminal Pots 1 through 3", 4 W3 "Wiper Terminal of Pot", 5 W4 "Wiper Terminal of Pot", 6 L4-6 "Low Terminal Pots 4 through 6", 7 W6 "Wiper Terminal of Pot", 8 ~{RST} (in) "Serial Port Reset Input", 9 CLK (in) "Serial Port Clock Input", 10 GND (power) "Ground", 11 COUT (out) "Cascade Data Output", 12 DIN (in) "Serial Port Data Input", 13 H6 "High End terminal of Pot", 14 W5 "Wiper Terminal of Pot", 15 H5 "High End terminal of Pot", 16 H4 "High End terminal of Pot", 17 H3 "High End terminal of Pot", 18 H2 "High End terminal of Pot", 19 H1 "High End terminal of Pot", 20 VCC (power) "3V or 5V Supply"

## DS1806S-050
designator U?
Digital Sextet Potentiometer with 3-Wire Serial Control Interface, Volatile, Linear Taper, 64 Steps, -40 to 85 degC, 20-pin SOIC (W20-3); PartNumber: DS1806S-050; DatasheetVersion: Rev. 1; PackageVersion: Rev. F, 10/2012; PackageReference: W20-3; PackageDescription: 20-Pin Small-Outline IC, Wide (0.3in), Body 12.8 x 7.5 mm, Pitch 1.27 mm; Supplier 1: Digi-Key; Supplier Part Number 1: DS1806S-050-ND; Supplier 2: Mouser; Supplier Part Number 2: N/A; Control Interface: 3-Wire Serial; Mounting Technology: Surface Mount; Code_JEDEC: MS013; ComponentLink1Description: Manufacturer URL; ComponentLink1URL: http://www.maximintegrated.com/; ComponentLink2Description: Datasheet; ComponentLink2URL: http://datasheets.maximintegrated.com/en/ds/DS1806.pdf; ComponentLink3Description: Package Specification; ComponentLink3URL: http://pdfserv.maximintegrated.com/package_dwgs/21-0042.PDF
footprint MAXM-W20-3_N (SOIC, 20-Leads, Body 12.8x7.5mm, Pitch 1.27mm, IPC Medium Density)
footprint MAXM-W20-3_L (SOIC, 20-Leads, Body 12.8x7.5mm, Pitch 1.27mm, IPC High Density)
footprint MAXM-W20-3_M (SOIC, 20-Leads, Body 12.8x7.5mm, Pitch 1.27mm, IPC Low Density)
pins: 1 W1 "Wiper Terminal of Pot", 2 W2 "Wiper Terminal of Pot", 3 L1-3 "Low Terminal Pots 1 through 3", 4 W3 "Wiper Terminal of Pot", 5 W4 "Wiper Terminal of Pot", 6 L4-6 "Low Terminal Pots 4 through 6", 7 W6 "Wiper Terminal of Pot", 8 ~{RST} (in) "Serial Port Reset Input", 9 CLK (in) "Serial Port Clock Input", 10 GND (power) "Ground", 11 COUT (out) "Cascade Data Output", 12 DIN (in) "Serial Port Data Input", 13 H6 "High End terminal of Pot", 14 W5 "Wiper Terminal of Pot", 15 H5 "High End terminal of Pot", 16 H4 "High End terminal of Pot", 17 H3 "High End terminal of Pot", 18 H2 "High End terminal of Pot", 19 H1 "High End terminal of Pot", 20 VCC (power) "3V or 5V Supply"

## DS1806S-050+
designator U?
Digital Sextet Potentiometer with 3-Wire Serial Control Interface, Volatile, Linear Taper, 64 Steps, -40 to 85 degC, 20-pin SOIC (W20+3), Pb-Free; PartNumber: DS1806S-050+; DatasheetVersion: Rev. 1; PackageVersion: Rev. F, 10/2012; PackageReference: W20+3; PackageDescription: 20-Pin Small-Outline IC, Wide (0.3in), Body 12.8 x 7.5 mm, Pitch 1.27 mm; Supplier 1: Digi-Key; Supplier Part Number 1: DS1806S-050+-ND; Supplier 2: Mouser; Supplier Part Number 2: 700-DS1806S-050; Control Interface: 3-Wire Serial; Mounting Technology: Surface Mount; Code_JEDEC: MS013; ComponentLink1Description: Manufacturer URL; ComponentLink1URL: http://www.maximintegrated.com/; ComponentLink2Description: Datasheet; ComponentLink2URL: http://datasheets.maximintegrated.com/en/ds/DS1806.pdf; ComponentLink3Description: Package Specification; ComponentLink3URL: http://pdfserv.maximintegrated.com/package_dwgs/21-0042.PDF
footprint MAXM-W20+3_N (SOIC, 20-Leads, Body 12.8x7.5mm, Pitch 1.27mm, IPC Medium Density)
footprint MAXM-W20+3_L (SOIC, 20-Leads, Body 12.8x7.5mm, Pitch 1.27mm, IPC High Density)
footprint MAXM-W20+3_M (SOIC, 20-Leads, Body 12.8x7.5mm, Pitch 1.27mm, IPC Low Density)
pins: 1 W1 "Wiper Terminal of Pot", 2 W2 "Wiper Terminal of Pot", 3 L1-3 "Low Terminal Pots 1 through 3", 4 W3 "Wiper Terminal of Pot", 5 W4 "Wiper Terminal of Pot", 6 L4-6 "Low Terminal Pots 4 through 6", 7 W6 "Wiper Terminal of Pot", 8 ~{RST} (in) "Serial Port Reset Input", 9 CLK (in) "Serial Port Clock Input", 10 GND (power) "Ground", 11 COUT (out) "Cascade Data Output", 12 DIN (in) "Serial Port Data Input", 13 H6 "High End terminal of Pot", 14 W5 "Wiper Terminal of Pot", 15 H5 "High End terminal of Pot", 16 H4 "High End terminal of Pot", 17 H3 "High End terminal of Pot", 18 H2 "High End terminal of Pot", 19 H1 "High End terminal of Pot", 20 VCC (power) "3V or 5V Supply"

## DS1806S-050+T&R
designator U?
Digital Sextet Potentiometer with 3-Wire Serial Control Interface, Volatile, Linear Taper, 64 Steps, -40 to 85 degC, 20-pin SOIC (W20+3), Pb-Free, Tape and Reel; PartNumber: DS1806S-050+T&R; DatasheetVersion: Rev. 1; PackageVersion: Rev. F, 10/2012; PackageReference: W20+3; PackageDescription: 20-Pin Small-Outline IC, Wide (0.3in), Body 12.8 x 7.5 mm, Pitch 1.27 mm; Supplier 1: Digi-Key; Supplier Part Number 1: DS1806S-050+T&R-ND; Supplier 2: Mouser; Supplier Part Number 2: 700-DS1806S-050T&R; Control Interface: 3-Wire Serial; Mounting Technology: Surface Mount; Code_JEDEC: MS013; ComponentLink1Description: Manufacturer URL; ComponentLink1URL: http://www.maximintegrated.com/; ComponentLink2Description: Datasheet; ComponentLink2URL: http://datasheets.maximintegrated.com/en/ds/DS1806.pdf; ComponentLink3Description: Package Specification; ComponentLink3URL: http://pdfserv.maximintegrated.com/package_dwgs/21-0042.PDF
footprint MAXM-W20+3_N (SOIC, 20-Leads, Body 12.8x7.5mm, Pitch 1.27mm, IPC Medium Density)
footprint MAXM-W20+3_L (SOIC, 20-Leads, Body 12.8x7.5mm, Pitch 1.27mm, IPC High Density)
footprint MAXM-W20+3_M (SOIC, 20-Leads, Body 12.8x7.5mm, Pitch 1.27mm, IPC Low Density)
pins: 1 W1 "Wiper Terminal of Pot", 2 W2 "Wiper Terminal of Pot", 3 L1-3 "Low Terminal Pots 1 through 3", 4 W3 "Wiper Terminal of Pot", 5 W4 "Wiper Terminal of Pot", 6 L4-6 "Low Terminal Pots 4 through 6", 7 W6 "Wiper Terminal of Pot", 8 ~{RST} (in) "Serial Port Reset Input", 9 CLK (in) "Serial Port Clock Input", 10 GND (power) "Ground", 11 COUT (out) "Cascade Data Output", 12 DIN (in) "Serial Port Data Input", 13 H6 "High End terminal of Pot", 14 W5 "Wiper Terminal of Pot", 15 H5 "High End terminal of Pot", 16 H4 "High End terminal of Pot", 17 H3 "High End terminal of Pot", 18 H2 "High End terminal of Pot", 19 H1 "High End terminal of Pot", 20 VCC (power) "3V or 5V Supply"

## DS1806S-050/T&R
designator U?
Digital Sextet Potentiometer with 3-Wire Serial Control Interface, Volatile, Linear Taper, 64 Steps, -40 to 85 degC, 20-pin SOIC (W20-3), Tape and Reel; PartNumber: DS1806S-050/T&R; DatasheetVersion: Rev. 1; PackageVersion: Rev. F, 10/2012; PackageReference: W20-3; PackageDescription: 20-Pin Small-Outline IC, Wide (0.3in), Body 12.8 x 7.5 mm, Pitch 1.27 mm; Supplier 1: Digi-Key; Supplier Part Number 1: DS1806S-050/T&R-ND; Supplier 2: Mouser; Supplier Part Number 2: N/A; Control Interface: 3-Wire Serial; Mounting Technology: Surface Mount; Code_JEDEC: MS013; ComponentLink1Description: Manufacturer URL; ComponentLink1URL: http://www.maximintegrated.com/; ComponentLink2Description: Datasheet; ComponentLink2URL: http://datasheets.maximintegrated.com/en/ds/DS1806.pdf; ComponentLink3Description: Package Specification; ComponentLink3URL: http://pdfserv.maximintegrated.com/package_dwgs/21-0042.PDF
footprint MAXM-W20-3_N (SOIC, 20-Leads, Body 12.8x7.5mm, Pitch 1.27mm, IPC Medium Density)
footprint MAXM-W20-3_L (SOIC, 20-Leads, Body 12.8x7.5mm, Pitch 1.27mm, IPC High Density)
footprint MAXM-W20-3_M (SOIC, 20-Leads, Body 12.8x7.5mm, Pitch 1.27mm, IPC Low Density)
pins: 1 W1 "Wiper Terminal of Pot", 2 W2 "Wiper Terminal of Pot", 3 L1-3 "Low Terminal Pots 1 through 3", 4 W3 "Wiper Terminal of Pot", 5 W4 "Wiper Terminal of Pot", 6 L4-6 "Low Terminal Pots 4 through 6", 7 W6 "Wiper Terminal of Pot", 8 ~{RST} (in) "Serial Port Reset Input", 9 CLK (in) "Serial Port Clock Input", 10 GND (power) "Ground", 11 COUT (out) "Cascade Data Output", 12 DIN (in) "Serial Port Data Input", 13 H6 "High End terminal of Pot", 14 W5 "Wiper Terminal of Pot", 15 H5 "High End terminal of Pot", 16 H4 "High End terminal of Pot", 17 H3 "High End terminal of Pot", 18 H2 "High End terminal of Pot", 19 H1 "High End terminal of Pot", 20 VCC (power) "3V or 5V Supply"

## DS1806S-100
designator U?
Digital Sextet Potentiometer with 3-Wire Serial Control Interface, Volatile, Linear Taper, 64 Steps, -40 to 85 degC, 20-pin SOIC (W20-3); PartNumber: DS1806S-100; DatasheetVersion: Rev. 1; PackageVersion: Rev. F, 10/2012; PackageReference: W20-3; PackageDescription: 20-Pin Small-Outline IC, Wide (0.3in), Body 12.8 x 7.5 mm, Pitch 1.27 mm; Supplier 1: Digi-Key; Supplier Part Number 1: DS1806S-100-ND; Supplier 2: Mouser; Supplier Part Number 2: N/A; Control Interface: 3-Wire Serial; Mounting Technology: Surface Mount; Code_JEDEC: MS013; ComponentLink1Description: Manufacturer URL; ComponentLink1URL: http://www.maximintegrated.com/; ComponentLink2Description: Datasheet; ComponentLink2URL: http://datasheets.maximintegrated.com/en/ds/DS1806.pdf; ComponentLink3Description: Package Specification; ComponentLink3URL: http://pdfserv.maximintegrated.com/package_dwgs/21-0042.PDF
footprint MAXM-W20-3_N (SOIC, 20-Leads, Body 12.8x7.5mm, Pitch 1.27mm, IPC Medium Density)
footprint MAXM-W20-3_L (SOIC, 20-Leads, Body 12.8x7.5mm, Pitch 1.27mm, IPC High Density)
footprint MAXM-W20-3_M (SOIC, 20-Leads, Body 12.8x7.5mm, Pitch 1.27mm, IPC Low Density)
pins: 1 W1 "Wiper Terminal of Pot", 2 W2 "Wiper Terminal of Pot", 3 L1-3 "Low Terminal Pots 1 through 3", 4 W3 "Wiper Terminal of Pot", 5 W4 "Wiper Terminal of Pot", 6 L4-6 "Low Terminal Pots 4 through 6", 7 W6 "Wiper Terminal of Pot", 8 ~{RST} (in) "Serial Port Reset Input", 9 CLK (in) "Serial Port Clock Input", 10 GND (power) "Ground", 11 COUT (out) "Cascade Data Output", 12 DIN (in) "Serial Port Data Input", 13 H6 "High End terminal of Pot", 14 W5 "Wiper Terminal of Pot", 15 H5 "High End terminal of Pot", 16 H4 "High End terminal of Pot", 17 H3 "High End terminal of Pot", 18 H2 "High End terminal of Pot", 19 H1 "High End terminal of Pot", 20 VCC (power) "3V or 5V Supply"